# Altium footprint library CornellBajaLibrary.PcbLib: 134 footprints (part 2 of 9)
Each footprint in its own frame and in the unit in brackets; x right, y up, seen from the top. Pads: shape width x height; smd on the part's side, far side on the other; paste and mask are expansions set on the pad; w line width, h text height; cw(c..) or ccw(c..) is an arc to the next point about the centre after c.
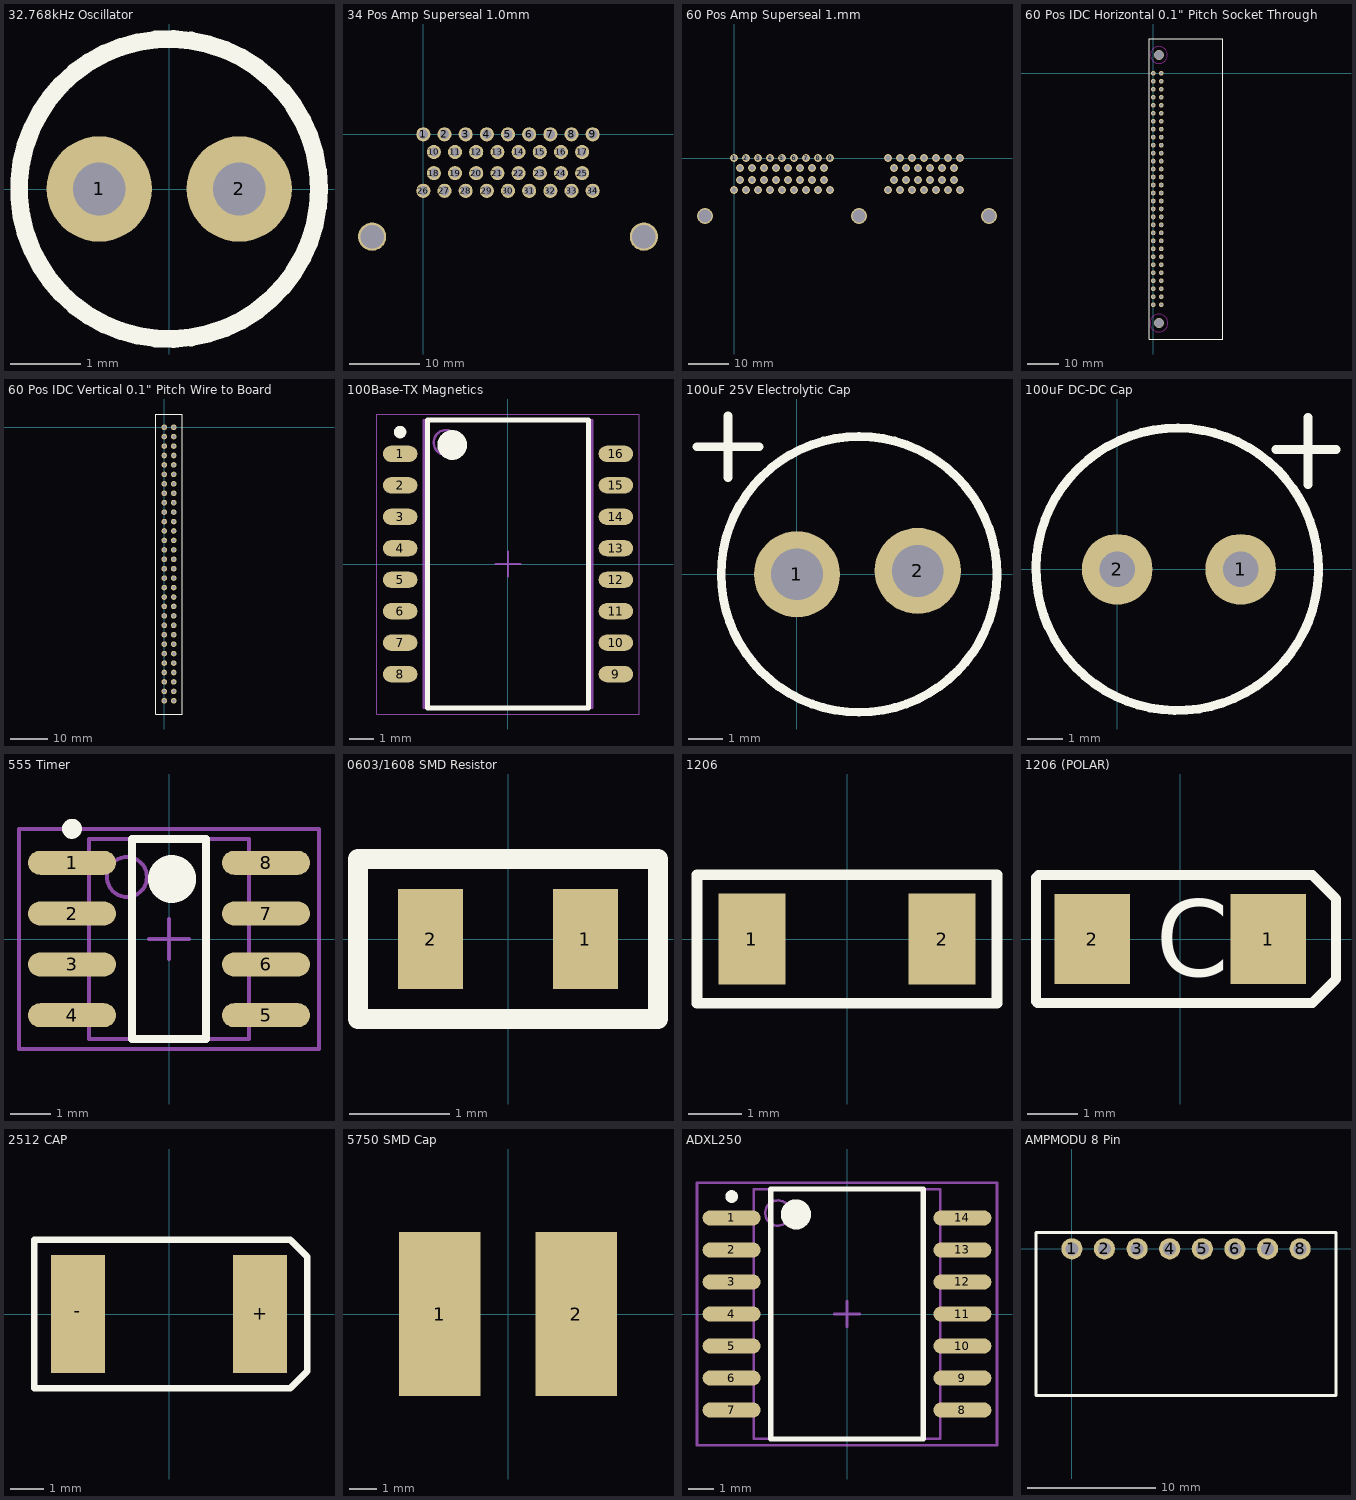
[diagram p1: the footprints below, top view; thin cyan lines are the x and y axes]

## 32.768kHz Oscillator [mm] "CFS-206"
pads (2):
  round 1.5 hole 0.75: 1(-0.992,0) 2(1,0)
Top Overlay:
  circle w0.254: c0,0 r2.134
3D body: height 7, standoff 0, extent -0.992,-0.998 1,0.998

## 34 Pos Amp Superseal 1.0mm [mm] "6437288-1"
pads (36):
  round 2 hole 1.3: 1(0,0) 2(3,0) 3(6,0) 4(9,0) 5(12,0) 6(15,0) 7(18,0) 8(21,0) 9(24,0) 10(1.5,-2.5) 11(4.5,-2.5) 12(7.5,-2.5) 13(10.5,-2.5) 14(13.5,-2.5) 15(16.5,-2.5) 16(19.5,-2.5) 17(22.5,-2.5) 18(1.5,-5.5) 19(4.5,-5.5) 20(7.5,-5.5) 21(10.5,-5.5) 22(13.5,-5.5) 23(16.5,-5.5) 24(19.5,-5.5) 25(22.5,-5.5) 26(0,-8) 27(3,-8) 28(6,-8) 29(9,-8) 30(12,-8) 31(15,-8) 32(18,-8) 33(21,-8) 34(24,-8)
  round 4 hole 3.3: ""(-7.25,-14.5) ""(31.25,-14.5)
3D body: height 28.45, standoff -3.7, extent -10.75,-34 34.75,2.5

## 60 Pos Amp Superseal 1.mm [mm] "6437288-3"
pads (63):
  round 2 hole 1.3: 1(0,0) 2(3,0) 3(6,0) 4(9,0) 5(12,0) 6(15,0) 7(18,0) 8(21,0) 9(24,0) 10(1.5,-2.5) 11(4.5,-2.5) 12(7.5,-2.5) 13(10.5,-2.5) 14(13.5,-2.5) 15(16.5,-2.5) 16(19.5,-2.5) 17(22.5,-2.5) 18(1.5,-5.5) 19(4.5,-5.5) 20(7.5,-5.5) 21(10.5,-5.5) 22(13.5,-5.5) 23(16.5,-5.5) 24(19.5,-5.5) 25(22.5,-5.5) 26(0,-8) 27(3,-8) 28(6,-8) 29(9,-8) 30(12,-8) 31(15,-8) 32(18,-8) 33(21,-8) 34(24,-8) 35(38.5,0) 36(41.5,0) 37(44.5,0) 38(47.5,0) 39(50.5,0) 40(53.5,0) 41(56.5,0) 42(40,-2.5) 43(43,-2.5) 44(46,-2.5) 45(49,-2.5) 46(52,-2.5) 47(55,-2.5) 48(40,-5.5) 49(43,-5.5) 50(46,-5.5) 51(49,-5.5) 52(52,-5.5) 53(55,-5.5) 54(38.5,-8) 55(41.5,-8) 56(44.5,-8) 57(47.5,-8) 58(50.5,-8) 59(53.5,-8) 60(56.5,-8)
  round 4 hole 3.3: ""(-7.25,-14.5) ""(31.25,-14.5) ""(63.75,-14.5)
3D body: height 28.45, standoff -3.7, extent -10.75,-34 67.25,2.5

## 60 Pos IDC Horizontal 0.1" Pitch Socket Through Hole [mm]
pads (62):
  round 1.5 hole 0.889: 1(0,0) 2(2.54,0) 3(0,-2.54) 4(2.54,-2.54) 5(0,-5.08) 6(2.54,-5.08) 7(0,-7.62) 8(2.54,-7.62) 9(0,-10.16) 10(2.54,-10.16) 11(0,-12.7) 12(2.54,-12.7) 13(0,-15.24) 14(2.54,-15.24) 15(0,-17.78) 16(2.54,-17.78) 17(0,-20.32) 18(2.54,-20.32) 19(0,-22.86) 20(2.54,-22.86) 21(0,-25.4) 22(2.54,-25.4) 23(0,-27.94) 24(2.54,-27.94) 25(0,-30.48) 26(2.54,-30.48) 27(0,-33.02) 28(2.54,-33.02) 29(0,-35.56) 30(2.54,-35.56) 31(0,-38.1) 32(2.54,-38.1) 33(0,-40.64) 34(2.54,-40.64) 35(0,-43.18) 36(2.54,-43.18) 37(0,-45.72) 38(2.54,-45.72) 39(0,-48.26) 40(2.54,-48.26) 41(0,-50.8) 42(2.54,-50.8) 43(0,-53.34) 44(2.54,-53.34) 45(0,-55.88) 46(2.54,-55.88) 47(0,-58.42) 48(2.54,-58.42) 49(0,-60.96) 50(2.54,-60.96) 51(0,-63.5) 52(2.54,-63.5) 53(0,-66.04) 54(2.54,-66.04) 55(0,-68.58) 56(2.54,-68.58) 57(0,-71.12) 58(2.54,-71.12) 59(0,-73.66) 60(2.54,-73.66)
  round 3.175 hole 2.794: ""(1.803,-79.502) ""(1.803,5.842)
Top Overlay:
  lines w0.254: -1.27,-84.582 -1.27,10.922 22.123,10.922 22.123,-84.582 -1.27,-84.582
Keep-Out Layer:
  circle w0.254: c1.803,-79.502 r2.819
  circle w0.254: c1.803,5.842 r2.695
3D body: height 8.7, standoff -2.63, extent -0.991,-84.582 23.364,10.922

## 60 Pos IDC Vertical 0.1" Pitch Wire to Board [mm]
pads (60):
  round 1.5 hole 0.889: 1(0,0) 2(2.54,0) 3(0,-2.54) 4(2.54,-2.54) 5(0,-5.08) 6(2.54,-5.08) 7(0,-7.62) 8(2.54,-7.62) 9(0,-10.16) 10(2.54,-10.16) 11(0,-12.7) 12(2.54,-12.7) 13(0,-15.24) 14(2.54,-15.24) 15(0,-17.78) 16(2.54,-17.78) 17(0,-20.32) 18(2.54,-20.32) 19(0,-22.86) 20(2.54,-22.86) 21(0,-25.4) 22(2.54,-25.4) 23(0,-27.94) 24(2.54,-27.94) 25(0,-30.48) 26(2.54,-30.48) 27(0,-33.02) 28(2.54,-33.02) 29(0,-35.56) 30(2.54,-35.56) 31(0,-38.1) 32(2.54,-38.1) 33(0,-40.64) 34(2.54,-40.64) 35(0,-43.18) 36(2.54,-43.18) 37(0,-45.72) 38(2.54,-45.72) 39(0,-48.26) 40(2.54,-48.26) 41(0,-50.8) 42(2.54,-50.8) 43(0,-53.34) 44(2.54,-53.34) 45(0,-55.88) 46(2.54,-55.88) 47(0,-58.42) 48(2.54,-58.42) 49(0,-60.96) 50(2.54,-60.96) 51(0,-63.5) 52(2.54,-63.5) 53(0,-66.04) 54(2.54,-66.04) 55(0,-68.58) 56(2.54,-68.58) 57(0,-71.12) 58(2.54,-71.12) 59(0,-73.66) 60(2.54,-73.66)
Top Overlay:
  lines w0.254: -2.286,-77.216 -2.286,3.556 4.826,3.556 4.826,-77.216 -2.286,-77.216
3D body: height 6.65, standoff -3.78, extent -2.261,-77.216 4.801,3.556

## 100Base-TX Magnetics [mm] "SOIC, 16-Leads, Body 11.60x6.80mm, Pitch 1.27mm, IPC Medium Density"
height 5.9
pads (16):
  oval 1.4x0.65 smd: 1(-4.35,4.445) 2(-4.35,3.175) 3(-4.35,1.905) 4(-4.35,0.635) 5(-4.35,-0.635) 6(-4.35,-1.905) 7(-4.35,-3.175) 8(-4.35,-4.445) 9(4.35,-4.445) 10(4.35,-3.175) 11(4.35,-1.905) 12(4.35,-0.635) 13(4.35,0.635) 14(4.35,1.905) 15(4.35,3.175) 16(4.35,4.445)
Top Overlay:
  circle w0.25: c-4.35,5.32 r0.125
  circle w0.6: c-2.25,4.8 r0.3
  lines w0.2: -3.25,-5.8 -3.25,5.8 3.25,5.8 3.25,-5.8 -3.25,-5.8
Mechanical 13:
  circle w0.1: c-2.5,4.9 r0.5
  lines w0.1: -3.4,-5.8 -3.4,5.8 3.4,5.8 3.4,-5.8 -3.4,-5.8
Mechanical 15:
  lines w0.05: -5.3,-6.05 -5.3,6.05 5.3,6.05 5.3,-6.05 -5.3,-6.05
  lines w0.1: -0.5,0 0.5,0 ; 0,-0.5 0,0.5
3D body: height 5.9, standoff 0.05, extent -3.4,-5.8 3.4,5.8

## 100uF 25V Electrolytic Cap [mm] "UBT1E101MPD1TD"
height 13.5
pads (2):
  round 2.5 hole 1.5: 1(0,0) 2(3.5,0.1)
Top Overlay:
  circle w0.254: c1.8,0 r4
  lines w0.254: -2.9,3.7 -1.1,3.7 ; -2,2.8 -2,4.6
3D body: height 13.5, standoff 0, extent -2.168,-3.992 5.8,3.992

## 100uF DC-DC Cap [mm]
height 11.5
pads (2):
  round 2 hole 1: 1(3.5,0) 2(0,0)
Top Overlay:
  lines w0.254: 4.5,3.4 6.2,3.4 ; 5.4,2.4 5.4,4.3 ; 5.7,-0.106 cw(c1.7,0) 5.701,0
3D body: height 12.01, standoff 0.5, extent -2.269,-4.098 5.7,3.886

## 555 Timer [mm] "NE555"
height 1.75
pads (8):
  oval 2.2x0.6 smd: 1(-2.425,1.905) 2(-2.425,0.635) 3(-2.425,-0.635) 4(-2.425,-1.905) 5(2.425,-1.905) 6(2.425,-0.635) 7(2.425,0.635) 8(2.425,1.905)
Top Overlay:
  circle w0.6: c0.075,1.5 r0.3
  circle w0.25: c-2.425,2.755 r0.125
  lines w0.2: -0.925,-2.5 0.925,-2.5 0.925,2.5 -0.925,2.5 -0.925,-2.5
Mechanical 13:
  circle w0.1: c-1.05,1.55 r0.5
  lines w0.1: -2,-2.5 2,-2.5 2,2.5 -2,2.5 -2,-2.5
Mechanical 15:
  lines w0.1: -0.5,0 0.5,0 ; 0,-0.5 0,0.5 ; -3.75,-2.75 3.75,-2.75 3.75,2.75 -3.75,2.75 -3.75,-2.75
3D body: height 1.75, standoff 0.1, extent -2,-2.5 2,2.5

## 0603/1608 SMD Resistor [mm]
pads (2):
  rect 0.65x1 smd: 1(0.775,0) 2(-0.775,0)
Top Overlay:
  lines w0.2: -1.5,-0.8 -1.5,0.225 -1.5,0.8 1.5,0.8 1.5,-0.8 -1.5,-0.8
3D body: height 1.2, standoff 0, extent -0.8,-0.5 0.8,0.5

## 1206 [mm]
pads (2):
  rect 1.25x1.7 smd: 1(-1.775,0) 2(1.775,0)
Top Overlay:
  lines w0.2: -2.8,-1.2 2.8,-1.2 2.8,1.2 -2.8,1.2 -2.8,0.5 -2.8,-1.2
3D body: height 1.2, standoff 0, extent -1.6,-0.8 1.6,0.8

## 1206 (POLAR) [mm]
pads (2):
  rect 1.5x1.8 smd: 1(1.75,0) 2(-1.75,0)
Top Overlay:
  lines w0.2: -2.87,-0.406 -2.87,1.219 -2.819,1.27 2.63,1.27 3.1,0.8 3.1,-0.8 2.63,-1.27 -2.845,-1.27 -2.87,-1.245 -2.87,-0.102
  text "C" at -0.483,-0.737 h1.52
3D body: height 1.2, standoff 0, extent -1.6,-0.9 1.6,0.9

## 2512 CAP [mm]
pads (2):
  rect 1.6x3.5 smd: +(2.7,0) -(-2.7,0)
Top Overlay:
  lines w0.2: -4,-2.2 -4,1.55 -4,2.2 3.6,2.2 4.1,1.7 4.1,-1.7 3.6,-2.2 -4,-2.2

## 5750 SMD Cap [mm]
pads (2):
  rect 3x6 smd: 1(-2.5,0) 2(2.5,0)
3D body: height 6, standoff 0.5, extent -3,-2.5 3,2.5

## ADXL250 [mm] "SOP, 14-Leads, Body 9.9x7.4mm (max), Pitch 1.27mm, IPC Medium Density"
height 5.461
pads (14):
  oval 2.3x0.6 smd: 1(-4.575,3.81) 2(-4.575,2.54) 3(-4.575,1.27) 4(-4.575,0) 5(-4.575,-1.27) 6(-4.575,-2.54) 7(-4.575,-3.81) 8(4.575,-3.81) 9(4.575,-2.54) 10(4.575,-1.27) 11(4.575,0) 12(4.575,1.27) 13(4.575,2.54) 14(4.575,3.81)
Top Overlay:
  circle w0.25: c-4.575,4.66 r0.125
  circle w0.6: c-2.025,3.95 r0.3
  lines w0.2: -3.025,-4.95 -3.025,4.95 3.025,4.95 3.025,-4.95 -3.025,-4.95
Mechanical 13:
  circle w0.1: c-2.745,4.005 r0.5
  lines w0.1: -3.695,-4.955 -3.695,4.955 3.695,4.955 3.695,-4.955 -3.695,-4.955
Mechanical 15:
  lines w0.1: -0.5,0 0.5,0 ; 0,-0.5 0,0.5 ; -5.95,-5.2 -5.95,5.2 5.95,5.2 5.95,-5.2 -5.95,-5.2
3D body: height 5.46, standoff 0, extent -3.695,-4.955 3.695,4.955

## AMPMODU 8 Pin [mil]
pads (8):
  round 65 hole 40: 1(0,0) 2(100,0) 3(200,0) 4(300,0) 5(400,0) 6(500,0) 7(600,0) 8(700,0)
Top Overlay:
  lines w9.84: -110,-450 -110,50 ; 810,-450 810,50
  lines w10: -110,-450 810,-450 ; -110,50 810,50